# EAGLE library part MCP16301 (library Microchip_sw_regulator)
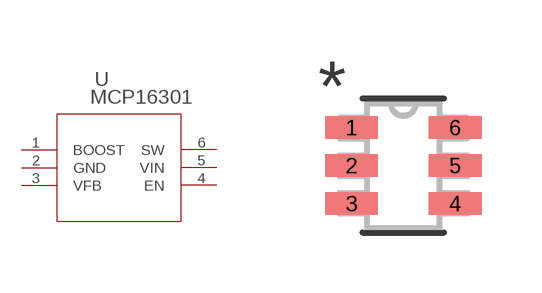
[diagram p0: symbol with the pads of 6-LEAD_SOT23_CH; footprint 6-LEAD_SOT23_CH]

Designator prefix -

## MCP16301  [6-LEAD_SOT23_CH]
1  BOOST  pas
2  GND  pwr
3  VFB  pas
4  EN  pas
5  VIN  in
6  SW  pas

## Footprint 6-LEAD_SOT23_CH (pad centres in mm)
smd 1.321 x 0.559: 1 -1.295,0.95; 2 -1.295,0; 3 -1.295,-0.95; 4 1.295,-0.95; 5 1.295,0; 6 1.295,0.95